# EAGLE library part MAX3420E (library m_misc)
USB Peripheral Controller with SPI Interface General Description The MAX3420E contains the digital logic and analog circuitry necessary to implement a full-speed USB peripheral compliant to USB specification rev 2.0. A built-in full-speed transceiver features ±15kV ESD pro- tection and programmable USB connect and discon- nect. An internal serial-interface engine (SIE) handles low-level USB protocol details such as error checking and bus retries. The MAX3420E operates using a regis- ter set accessed by an SPITM interface that operates up to 26MHz. Any SPI master (microprocessor, ASIC, DSP, etc.) can add USB functionality using the simple 3- or 4-wire SPI interface. Internal level translators allow the SPI interface to run at a system voltage between 1.71V and 3.6V. USB timed operations are done inside the MAX3420E with inter- rupts provided at completion so an SPI master does not need timers to meet USB timing requirements. The MAX3420E includes four general-purpose inputs and outputs so any microprocessor that uses I/O pins to implement the SPI interface can reclaim the I/O pins and gain additional ones. The MAX3420E operates over the extended -40°C to +85°C temperature range and is available in a 32-pin LQFP package (7mm x 7mm) and a space-saving 24- pin TQFN package (4mm x 4mm). Microprocessor-Independent USB Solution Complies with USB Specification Revision 2.0 (Full-Speed Operation) Integrated Full-Speed USB Transceiver Firmware/Hardware Control of an Internal D+ Pullup Resistor Programmable 3- or 4-Wire 26MHz SPI Interface Level Translators and VL Input Allow Independent System Interface Voltage Internal Comparator Detects VBUS for Self-Powered Applications ESD Protection on D+, D-, and VBCOMP Interrupt Output Pin (Level or Programmable Edge) Allows Polled or Interrupt-Driven SPI Interface Intelligent USB Serial-Interface Engine (SIE) Automatically Handles USB Flow Control and Double Buffering Handles Low-Level USB Signaling Details Contains Timers for USB Time-Sensitive Operations So SPI Master Does Not Need to Time Events Built-In Endpoint FIFOs EP0: CONTROL (64 Bytes) EP1: OUT, Bulk or Interrupt, 2 x 64 Bytes (Double-Buffered) EP2: IN, Bulk or Interrupt, 2 x 64 Bytes (Double-Buffered) EP3: IN, Bulk or Interrupt (64 Bytes) Double-Buffered Data Endpoints Increase Throughput by Allowing the SPI Master to Transfer Data Concurrently with USB Transfers Over the Same Endpoint SETUP Data Has Its Own 8-Byte FIFO, Simplifying Firmware Four General-Purpose Inputs and Four General- Purpose Outputs Space-Saving LQFP and TQFN Packages
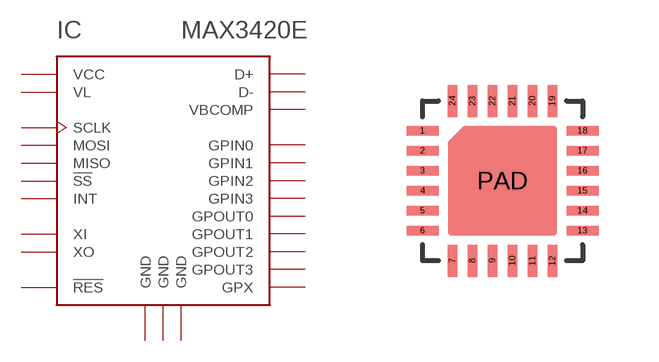
[diagram p31: symbol with the pads of TQFN24; footprint TQFN24]

Designator prefix IC

## MAX3420EETG  [TQFN24]
1  GPOUT0  out
2  GPOUT1  out
3  VL  pas
4  GND  pwr
5  GPOUT2  out
6  GPOUT3  out
7  !RES  in
8  SCLK  in
9  !SS  in
10  MISO  out
11  MOSI  in
12  GPX
13  INT  out
14  GND  pwr
15  D-  pas
16  D+  pas
17  VCC  pwr
18  VBCOMP  pas
19  XI  pas
20  XO  pas
21  GPIN0  in
22  GPIN1  in
23  GPIN2  in
24  GPIN3  in
PAD  GND  pwr

## Footprint TQFN24 (pad centres in mm)
28 Thin QFN From Maxim Pkg. Code T2444-4
smd 0.8 x 0.23: 1 -2,1.25; 2 -2,0.75; 3 -2,0.25; 4 -2,-0.25; 5 -2,-0.75; 6 -2,-1.25; 13 2,-1.25; 14 2,-0.75; 15 2,-0.25; 16 2,0.25; 17 2,0.75; 18 2,1.25
smd 0.23 x 0.8: 7 -1.25,-2; 8 -0.75,-2; 9 -0.25,-2; 10 0.25,-2; 11 0.75,-2; 12 1.25,-2; 19 1.25,2; 20 0.75,2; 21 0.25,2; 22 -0.25,2; 23 -0.75,2; 24 -1.25,2
smd 1 x 1: PAD 0,0